# Altium schematic symbol library SamacSys.SchLib: 104 symbols
Pins are listed as number, name and electrical type; pins without a type are passive.

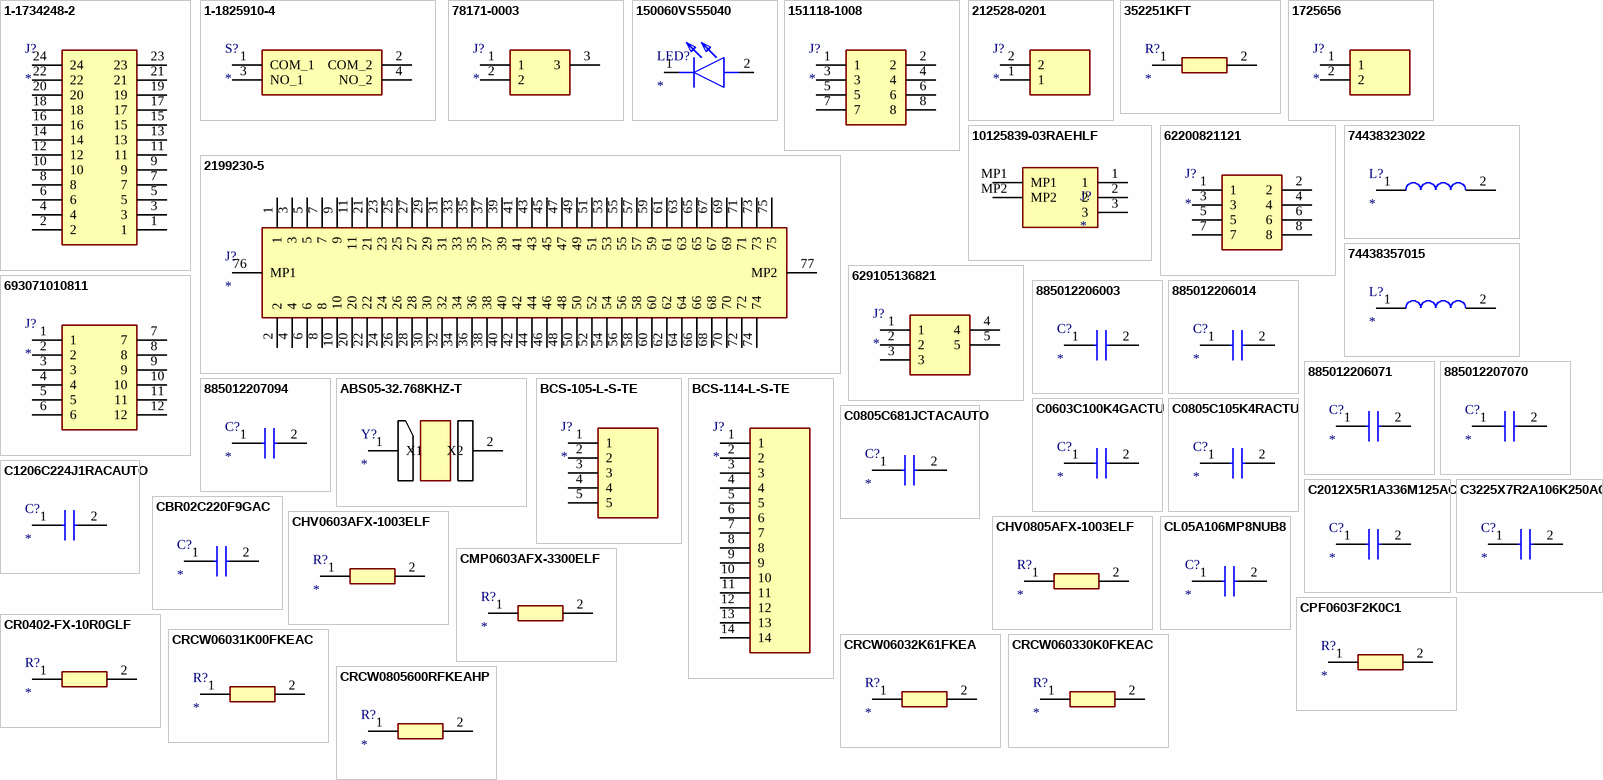
[diagram p0: symbols 1-1734248-2 to CRCW0805600RFKEAHP]

## 1-1734248-2
designator J?
Connector; Manufacturer_Name: TE Connectivity; Manufacturer_Part_Number: 1-1734248-2; Datasheet Link: https://componentsearchengine.com/Datasheets/2/1-1734248-2.pdf; Height: 8mm
footprint 117342482
pins: 1, 2, 3, 4, 5, 6, 7, 8, 9, 10, 11, 12, 13, 14, 15, 16, 17, 18, 19, 20, 21, 22, 23, 24

## 1-1825910-4
designator S?
Switch; Manufacturer_Name: TE Connectivity; Manufacturer_Part_Number: 1-1825910-4; Datasheet Link: https://componentsearchengine.com//1-1825910-4.pdf; Height: 7.7mm; Mouser2 Part Number: 506-1-1825910-4; Mouser2 Price/Stock: https://www.mouser.com/Search/Refine.aspx?Keyword=506-1-1825910-4
footprint 118259104
pins: 1 COM_1, 2 COM_2, 3 NO_1, 4 NO_2

## 78171-0003
designator J?
Connector; Manufacturer_Name: Molex; Manufacturer_Part_Number: 78171-0003; Datasheet Link: https://componentsearchengine.com//78171-0003.pdf; Mouser2 Part Number: 538-78171-0003; Mouser2 Price/Stock: https://www.mouser.com/Search/Refine.aspx?Keyword=538-78171-0003
footprint 78171-0003
pins: 1, 2, 3

## 150060VS55040
designator LED?
LED; Manufacturer_Name: Wurth Elektronik; Manufacturer_Part_Number: 150060VS55040; Datasheet Link: https://katalog.we-online.com/led/datasheet/150060VS55040.pdf; Height: 0.5mm
footprint LEDM168X50N
pins: 1 K, 2 A

## 151118-1008
designator J?
Connector; Manufacturer_Name: Molex; Manufacturer_Part_Number: 151118-1008; Height: 6.6mm
footprint 1511181008
pins: 1, 2, 3, 4, 5, 6, 7, 8

## 212528-0201
designator J?
Connector; Manufacturer_Name: Molex; Manufacturer_Part_Number: 212528-0201; Datasheet Link: https://www.molex.com/molex/products/part-detail/pcb_headers/2125280200; Height: 8.06mm
footprint 212528-02YY
pins: 1, 2

## 352251KFT
designator R?
Resistor; Manufacturer_Name: TE Connectivity; Manufacturer_Part_Number: 352251KFT; Datasheet Link: http://www.te.com/commerce/DocumentDelivery/DDEController?Action=showdoc&DocId=Data+Sheet%7F9-1773463-7%7FB%7Fpdf%7FEnglish%7FENG_DS_9-1773463-7_B.pdf%7F9-2176231-0; Height: 1.2mm
footprint RESC6432X120N
pins: 1, 2

## 1725656
designator J?
Connector; Manufacturer_Name: Phoenix Contact; Manufacturer_Part_Number: 1725656; Datasheet Link: https://componentsearchengine.com//1725656.pdf; Height: 8.65mm; Mouser2 Part Number: 651-1725656; Mouser2 Price/Stock: https://www.mouser.com/Search/Refine.aspx?Keyword=651-1725656
footprint 1725656
pins: 1, 2

## 2199230-5
designator J?
Connector; Manufacturer_Name: TE Connectivity; Manufacturer_Part_Number: 2199230-5; Datasheet Link: https://componentsearchengine.com//2199230-5.pdf; Height: 4.2mm; Mouser2 Part Number: 571-2199230-5; Mouser2 Price/Stock: https://www.mouser.com/Search/Refine.aspx?Keyword=571-2199230-5
footprint 21992305
pins: 1, 2, 3, 4, 5, 6, 7, 8, 9, 10, 11, 20, 21, 22, 23, 24, 25, 26, 27, 28, 29, 30, 31, 32, 33, 34, 35, 36, 37, 38, 39, 40, 41, 42, 43, 44, 45, 46, 47, 48, 49, 50, 51, 52, 53, 54, 55, 56, 57, 58, 59, 60, 61, 62, 63, 64, 65, 66, 67, 68, 69, 70, 71, 72, 73, 74, 75, 76 MP1, 77 MP2

## 10125839-03RAEHLF
designator J?
Connector; Manufacturer_Name: Amphenol; Manufacturer_Part_Number: 10125839-03RAEHLF; Datasheet Link: https://cdn.amphenol-icc.com/media/wysiwyg/files/drawing/10125839.pdf; Height: 2.5mm
footprint 1012583903RAEHLF
pins: 1, 2, 3, MP1, MP2

## 62200821121
designator J?
Connector; Manufacturer_Name: Wurth Elektronik; Manufacturer_Part_Number: 62200821121; Height: 5.3mm
footprint HDRV8W50P127_2X4_508X340X530P
pins: 1, 2, 3, 4, 5, 6, 7, 8

## 74438323022
designator L?
Inductor; Manufacturer_Name: Wurth Elektronik; Manufacturer_Part_Number: 74438323022; Datasheet Link: https://componentsearchengine.com//74438323022.pdf; Height: 1mm; Mouser2 Part Number: 710-74438323022; Mouser2 Price/Stock: https://www.mouser.com/Search/Refine.aspx?Keyword=710-74438323022
footprint INDC2520X100N
pins: 1, 2

## 74438357015
designator L?
Inductor; Manufacturer_Name: Wurth Elektronik; Manufacturer_Part_Number: 74438357015; Datasheet Link: https://componentsearchengine.com//74438357015.pdf; Height: 3.1mm; Mouser2 Part Number: 710-74438357015; Mouser2 Price/Stock: https://www.mouser.com/Search/Refine.aspx?Keyword=710-74438357015
footprint 74438357015
pins: 1, 2

## 629105136821
designator J?
Connector; Manufacturer_Name: Wurth Elektronik; Manufacturer_Part_Number: 629105136821; Datasheet Link: https://componentsearchengine.com//629105136821.pdf; Mouser2 Part Number: 710-629105136821; Mouser2 Price/Stock: https://www.mouser.com/Search/Refine.aspx?Keyword=710-629105136821
footprint MICRO-USB(2.0-SMT-TYPE-B)
pins: 1, 2, 3, 4, 5

## 693071010811
designator J?
Connector; Manufacturer_Name: Wurth Elektronik; Manufacturer_Part_Number: 693071010811; Datasheet Link: https://www.we-online.de/katalog/datasheet/693071010811.pdf; Height: 2.13mm
footprint 693071010811
pins: 1, 2, 3, 4, 5, 6, 7, 8, 9, 10, 11, 12

## 885012206003
designator C?
Capacitor; Manufacturer_Name: Wurth Elektronik; Manufacturer_Part_Number: 885012206003; Datasheet Link: https://katalog.we-online.com/pbs/datasheet/885012206003.pdf; Height: 0.87mm
footprint CAPC1608X87N
pins: 1, 2

## 885012206014
designator C?
Capacitor; Manufacturer_Name: Wurth Elektronik; Manufacturer_Part_Number: 885012206014; Datasheet Link: https://katalog.we-online.com/pbs/datasheet/885012206014.pdf; Height: 0.87mm
footprint CAPC1608X87N
pins: 1, 2

## 885012206071
designator C?
Capacitor; Manufacturer_Name: Wurth Elektronik; Manufacturer_Part_Number: 885012206071; Datasheet Link: https://katalog.we-online.com/pbs/datasheet/885012206071.pdf; Height: 0.87mm
footprint CAPC1608X87N
pins: 1, 2

## 885012207070
designator C?
Capacitor; Manufacturer_Name: Wurth Elektronik; Manufacturer_Part_Number: 885012207070; Datasheet Link: https://katalog.we-online.com/pbs/datasheet/885012207070.pdf; Height: 0.9mm
footprint CAPC2012X90N
pins: 1, 2

## 885012207094
designator C?
Capacitor; Manufacturer_Name: Wurth Elektronik; Manufacturer_Part_Number: 885012207094; Datasheet Link: https://componentsearchengine.com//885012207094.pdf; Height: 0.9mm; Mouser2 Part Number: 710-885012207094; Mouser2 Price/Stock: https://www.mouser.com/Search/Refine.aspx?Keyword=710-885012207094
footprint CAPC2012X90N
pins: 1, 2

## ABS05-32.768KHZ-T
designator Y?
Crystal or Oscillator; Manufacturer_Name: ABRACON; Manufacturer_Part_Number: ABS05-32.768KHZ-T; Height: 0.5mm
footprint ABS0532768KHZT
pins: 1 X1, 2 X2

## BCS-105-L-S-TE
designator J?
Connector; Manufacturer_Name: SAMTEC; Manufacturer_Part_Number: BCS-105-L-S-TE; Datasheet Link: http://suddendocs.samtec.com/prints/bcs-1xx-xxx-x-xx-xxx-mkt.pdf
footprint BCS-105-XXX-S-TE
pins: 1, 2, 3, 4, 5

## BCS-114-L-S-TE
designator J?
Connector; Manufacturer_Name: SAMTEC; Manufacturer_Part_Number: BCS-114-L-S-TE; Datasheet Link: http://suddendocs.samtec.com/prints/bcs-1xx-xxx-x-xx-xxx-mkt.pdf
footprint BCS-114-XXX-S-TE
pins: 1, 2, 3, 4, 5, 6, 7, 8, 9, 10, 11, 12, 13, 14

## C0603C100K4GACTU
designator C?
Capacitor; Manufacturer_Name: Kemet; Manufacturer_Part_Number: C0603C100K4GACTU; Datasheet Link: https://componentsearchengine.com//C0603C100K4GACTU.pdf; Height: 0.87mm; Mouser2 Part Number: 80-C0603C100K4GACTU; Mouser2 Price/Stock: https://www.mouser.com/Search/Refine.aspx?Keyword=80-C0603C100K4GACTU
footprint CAPC1608X87N
pins: 1, 2

## C0805C105K4RACTU
designator C?
Capacitor; Manufacturer_Name: Kemet; Manufacturer_Part_Number: C0805C105K4RACTU; Datasheet Link: https://datasheet.datasheetarchive.com/originals/distributors/Datasheets-DGA10/2404873.pdf; Height: 1mm
footprint CAPC2012X100N
pins: 1, 2

## C0805C681JCTACAUTO
designator C?
Capacitor; Manufacturer_Name: Kemet; Manufacturer_Part_Number: C0805C681JCTACAUTO; Datasheet Link: https://www.kemet.com/specsheet/C0805C681JCTACAUTO; Height: 1.4mm
footprint CAPC2012X140N
pins: 1, 2

## C1206C224J1RACAUTO
designator C?
Capacitor; Manufacturer_Name: Kemet; Manufacturer_Part_Number: C1206C224J1RACAUTO; Datasheet Link: https://connect.kemet.com:7667/gateway/IntelliData-ComponentDocumentation/1.0/download/specsheet/C1206C224J1RACAUTO; Height: 1mm
footprint CAPC3216X100N
pins: 1, 2

## C2012X5R1A336M125AC
designator C?
Capacitor; Manufacturer_Name: TDK; Manufacturer_Part_Number: C2012X5R1A336M125AC; Datasheet Link: https://product.tdk.com/system/files/dam/doc/product/capacitor/ceramic/mlcc/catalog/mlcc_commercial_general_en.pdf; Height: 0.75mm
footprint C2012_Commercial
pins: 1, 2

## C3225X7R2A106K250AC
designator C?
Capacitor; Manufacturer_Name: TDK; Manufacturer_Part_Number: C3225X7R2A106K250AC; Datasheet Link: https://product.tdk.com/info/en/catalog/datasheets/mlcc_commercial_midvoltage_en.pdf; Height: 2.3mm
footprint CAPC3225X230N
pins: 1, 2

## CBR02C220F9GAC
designator C?
Capacitor; Manufacturer_Name: Kemet; Manufacturer_Part_Number: CBR02C220F9GAC; Datasheet Link: https://datasheet.datasheetarchive.com/originals/distributors/Datasheets-DGA10/2407502.pdf; Height: 0.33mm
footprint CAPC0603X33N
pins: 1, 2

## CHV0603AFX-1003ELF
designator R?
Resistor; Manufacturer_Name: Bourns; Manufacturer_Part_Number: CHV0603AFX-1003ELF; Datasheet Link: https://www.bourns.com/docs/product-datasheets/chv.pdf?sfvrsn=adcf1bf9_27; Height: 0.55mm
footprint RESC1608X55N
pins: 1, 2

## CHV0805AFX-1003ELF
designator R?
Resistor; Manufacturer_Name: Bourns; Manufacturer_Part_Number: CHV0805AFX-1003ELF; Height: 0.6mm
footprint RESC2012X60N
pins: 1, 2

## CL05A106MP8NUB8
designator C?
Capacitor; Manufacturer_Name: Samsung Electro-Mechanics; Manufacturer_Part_Number: CL05A106MP8NUB8; Datasheet Link: https://datasheet.datasheetarchive.com/originals/distributors/DKDS-19/372904.pdf; Height: 0.9mm
footprint CAPC1005X90N
pins: 1, 2

## CMP0603AFX-3300ELF
designator R?
Resistor; Manufacturer_Name: Bourns; Manufacturer_Part_Number: CMP0603AFX-3300ELF; Datasheet Link: https://www.bourns.com/docs/Product-Datasheets/CMP-A.pdf; Height: 0.55mm
footprint RESC1608X55N
pins: 1, 2

## CPF0603F2K0C1
designator R?
Resistor; Manufacturer_Name: TE Connectivity; Manufacturer_Part_Number: CPF0603F2K0C1; Height: 0.55mm
footprint RESC1608X55N
pins: 1, 2

## CR0402-FX-10R0GLF
designator R?
Resistor; Manufacturer_Name: Bourns; Manufacturer_Part_Number: CR0402-FX-10R0GLF; Datasheet Link: https://www.bourns.com/pdfs/CR0402.pdf; Height: 0.4mm
footprint RESC1005X40N
pins: 1, 2

## CRCW06031K00FKEAC
designator R?
Resistor; Manufacturer_Name: Vishay; Manufacturer_Part_Number: CRCW06031K00FKEAC; Datasheet Link: https://componentsearchengine.com//CRCW06031K00FKEAC.pdf; Height: 0.55mm; Mouser2 Part Number: 71-CRCW06031K00FKEAC; Mouser2 Price/Stock: https://www.mouser.com/Search/Refine.aspx?Keyword=71-CRCW06031K00FKEAC
footprint RESC1608X55N
pins: 1, 2

## CRCW06032K61FKEA
designator R?
Resistor; Manufacturer_Name: Vishay; Manufacturer_Part_Number: CRCW06032K61FKEA; Datasheet Link: http://www.vishay.com/docs/20035/dcrcwe3.pdf; Height: 0.5mm
footprint RESC1608X50N
pins: 1, 2

## CRCW060330K0FKEAC
designator R?
Resistor; Manufacturer_Name: Vishay; Manufacturer_Part_Number: CRCW060330K0FKEAC; Datasheet Link: https://componentsearchengine.com//CRCW060330K0FKEAC.pdf; Height: 0.55mm; Mouser2 Part Number: 71-CRCW060330K0FKEAC; Mouser2 Price/Stock: https://www.mouser.com/Search/Refine.aspx?Keyword=71-CRCW060330K0FKEAC
footprint RESC1608X55N
pins: 1, 2

## CRCW0805600RFKEAHP
designator R?
Resistor; Manufacturer_Name: Vishay; Manufacturer_Part_Number: CRCW0805600RFKEAHP; Datasheet Link: https://componentsearchengine.com/Datasheets/1/CRCW08051R00FKEAHP.pdf; Height: 0.6mm
footprint RESC2012X60N
pins: 1, 2

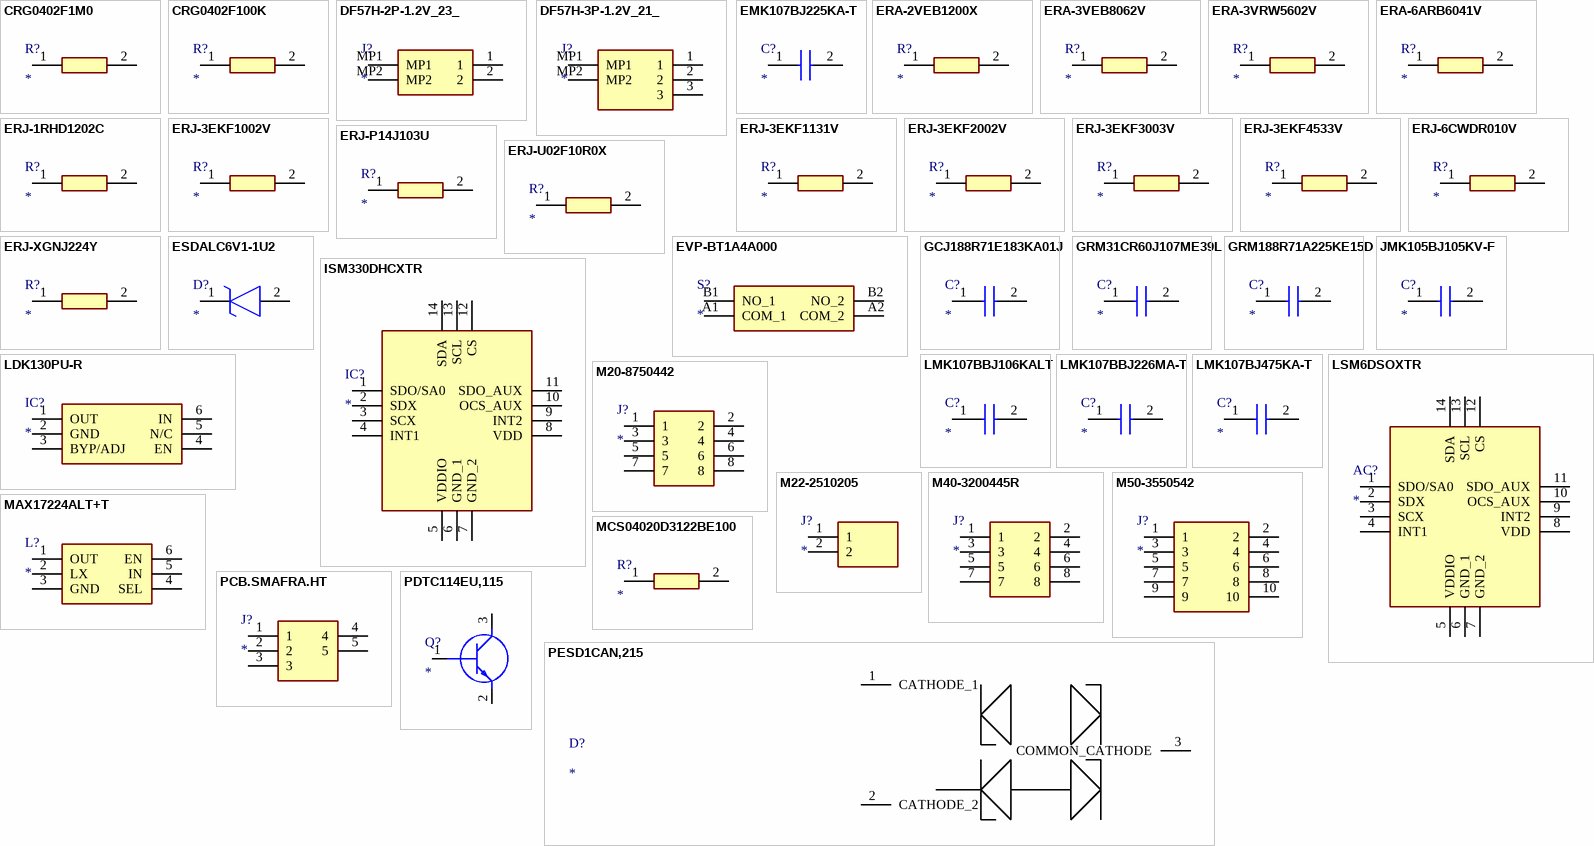
[diagram p1: symbols CRG0402F1M0 to PESD1CAN,215]

## CRG0402F1M0
designator R?
Resistor; Manufacturer_Name: TE Connectivity; Manufacturer_Part_Number: CRG0402F1M0; Datasheet Link: https://datasheet.datasheetarchive.com/originals/distributors/DKDS-21/401698.pdf; Height: 0.4mm
footprint RESC1005X40N
pins: 1, 2

## CRG0402F100K
designator R?
Resistor; Manufacturer_Name: TE Connectivity; Manufacturer_Part_Number: CRG0402F100K; Datasheet Link: https://datasheet.datasheetarchive.com/originals/distributors/DKDS-21/401698.pdf; Height: 0.4mm
footprint RESC1005X40N
pins: 1, 2

## DF57H-2P-1.2V_23_
designator J?
Connector; Manufacturer_Name: Hirose; Manufacturer_Part_Number: DF57H-2P-1.2V(23); Datasheet Link: https://www.hirose.com/product/document?clcode=CL0666-0104-7-23&productname=DF57H-2P-1.2V(23)&series=DF57&documenttype=2DDrawing&lang=en&documentid=0000600026; Height: 1.55mm
footprint DF57H2P12V23
pins: 1, 2, MP1, MP2

## DF57H-3P-1.2V_21_
designator J?
Connector; Manufacturer_Name: Hirose; Manufacturer_Part_Number: DF57H-3P-1.2V(21); Datasheet Link: https://componentsearchengine.com//DF57H-3P-1.2V(21).pdf; Height: 1.55mm; Mouser2 Part Number: 798-DF57H-3P-1.2V21; Mouser2 Price/Stock: https://www.mouser.com/Search/Refine.aspx?Keyword=798-DF57H-3P-1.2V21
footprint DF57H3P12V21
pins: 1, 2, 3, MP1, MP2

## EMK107BJ225KA-T
designator C?
Capacitor; Manufacturer_Name: TAIYO YUDEN; Manufacturer_Part_Number: EMK107BJ225KA-T; Height: 0.5mm
footprint CAPC1608X50N
pins: 1, 2

## ERA-2VEB1200X
designator R?
Resistor; Manufacturer_Name: Panasonic; Manufacturer_Part_Number: ERA-2VEB1200X; Datasheet Link: http://industrial.panasonic.com/cdbs/www-data/pdf/RDM0000/RDM0000C331.pdf; Height: 0.4mm
footprint ERA2V_(0402)
pins: 1, 2

## ERA-3VEB8062V
designator R?
Resistor; Manufacturer_Name: Panasonic; Manufacturer_Part_Number: ERA-3VEB8062V; Datasheet Link: http://industrial.panasonic.com/cdbs/www-data/pdf/RDM0000/RDM0000C331.pdf; Height: 0.4mm
footprint ERA3KV_(0603)
pins: 1, 2

## ERA-3VRW5602V
designator R?
Resistor; Manufacturer_Name: Panasonic; Manufacturer_Part_Number: ERA-3VRW5602V; Datasheet Link: http://industrial.panasonic.com/cdbs/www-data/pdf/RDM0000/RDM0000C331.pdf; Height: 0.4mm
footprint ERA3KV_(0603)
pins: 1, 2

## ERA-6ARB6041V
designator R?
Resistor; Manufacturer_Name: Panasonic; Manufacturer_Part_Number: ERA-6ARB6041V; Datasheet Link: http://industrial.panasonic.com/cdbs/www-data/pdf/RDM0000/AOA0000C307.pdf; Height: 0.6mm
footprint ERA6A_(0805)
pins: 1, 2

## ERJ-1RHD1202C
designator R?
Resistor; Manufacturer_Name: Panasonic; Manufacturer_Part_Number: ERJ-1RHD1202C; Datasheet Link: https://industrial.panasonic.com/cdbs/www-data/pdf/RDA0000/AOA0000C304.pdf; Height: 0.26mm
footprint RESC0603X26N
pins: 1, 2

## ERJ-3EKF1002V
designator R?
Resistor; Manufacturer_Name: Panasonic; Manufacturer_Part_Number: ERJ-3EKF1002V; Datasheet Link: https://componentsearchengine.com//ERJ-3EKF1002V.pdf; Height: 0.55mm; Mouser2 Part Number: 667-ERJ-3EKF1002V; Mouser2 Price/Stock: https://www.mouser.com/Search/Refine.aspx?Keyword=667-ERJ-3EKF1002V
footprint ERJ3EK_(0603)
pins: 1, 2

## ERJ-3EKF1131V
designator R?
Resistor; Manufacturer_Name: Panasonic; Manufacturer_Part_Number: ERJ-3EKF1131V; Datasheet Link: https://industrial.panasonic.com/cdbs/www-data/pdf/RDA0000/AOA0000C304.pdf; Height: 0.55mm
footprint ERJ3EK_(0603)
pins: 1, 2

## ERJ-3EKF2002V
designator R?
Resistor; Manufacturer_Name: Panasonic; Manufacturer_Part_Number: ERJ-3EKF2002V; Datasheet Link: https://componentsearchengine.com//ERJ-3EKF2002V.pdf; Height: 0.55mm; Mouser2 Part Number: 667-ERJ-3EKF2002V; Mouser2 Price/Stock: https://www.mouser.com/Search/Refine.aspx?Keyword=667-ERJ-3EKF2002V
footprint ERJ3EK_(0603)
pins: 1, 2

## ERJ-3EKF3003V
designator R?
Resistor; Manufacturer_Name: Panasonic; Manufacturer_Part_Number: ERJ-3EKF3003V; Datasheet Link: https://industrial.panasonic.com/cdbs/www-data/pdf/RDA0000/AOA0000C304.pdf; Height: 0.55mm
footprint ERJ3EK_(0603)
pins: 1, 2

## ERJ-3EKF4533V
designator R?
Resistor; Manufacturer_Name: Panasonic; Manufacturer_Part_Number: ERJ-3EKF4533V; Datasheet Link: https://industrial.panasonic.com/cdbs/www-data/pdf/RDA0000/AOA0000C304.pdf; Height: 0.55mm
footprint ERJ3EK_(0603)
pins: 1, 2

## ERJ-6CWDR010V
designator R?
Resistor; Manufacturer_Name: Panasonic; Manufacturer_Part_Number: ERJ-6CWDR010V; Description: SMD Current Sense Resistor; Datasheet Link: https://componentsearchengine.com//ERJ-6CWDR010V.pdf; Mouser2 Part Number: 667-ERJ-6CWDR010V; Mouser2 Price/Stock: https://www.mouser.com/Search/Refine.aspx?Keyword=667-ERJ-6CWDR010V
footprint ERJ6_B_BW_R_LW_CW_D
pins: 1, 2

## ERJ-P14J103U
designator R?
Resistor; Manufacturer_Name: Panasonic; Manufacturer_Part_Number: ERJ-P14J103U; Datasheet Link: http://industrial.panasonic.com/cdbs/www-data/pdf/RDO0000/AOA0000C331.pdf; Height: 0.7mm
footprint ERJP14_(1210)
pins: 1, 2

## ERJ-U02F10R0X
designator R?
Resistor; Manufacturer_Name: Panasonic; Manufacturer_Part_Number: ERJ-U02F10R0X; Datasheet Link: https://industrial.panasonic.com/cdbs/www-data/pdf/RDP0000/AOA0000C334.pdf; Height: 0.4mm
footprint ERJS02_U02_(0402)
pins: 1, 2

## ERJ-XGNJ224Y
designator R?
Resistor; Manufacturer_Name: Panasonic; Manufacturer_Part_Number: ERJ-XGNJ224Y; Datasheet Link: https://industrial.panasonic.com/cdbs/www-data/pdf/RDA0000/AOA0000C301.pdf; Height: 0.15mm
footprint ERJXG_(01005)
pins: 1, 2

## ESDALC6V1-1U2
designator D?
TVS Diode (Uni-directional); Manufacturer_Name: STMicroelectronics; Manufacturer_Part_Number: ESDALC6V1-1U2; Datasheet Link: http://www.st.com/web/en/resource/technical/document/datasheet/CD00212838.pdf; Height: 0mm
footprint ESDALC6V11U2
pins: 1 K, 2 A

## EVP-BT1A4A000
designator S?
Switch; Manufacturer_Name: Panasonic; Manufacturer_Part_Number: EVP-BT1A4A000; Datasheet Link: https://b2b-api.panasonic.eu/file_stream/pids/fileversion/245491; Height: 4.5mm
footprint EVPBT1A4A000
pins: A1 COM_1, A2 COM_2, B1 NO_1, B2 NO_2

## GCJ188R71E183KA01J
designator C?
Capacitor; Manufacturer_Name: Murata Electronics; Manufacturer_Part_Number: GCJ188R71E183KA01J; Datasheet Link: https://psearch.en.murata.com/capacitor/product/GCJ188R71E183KA01%23.html; Height: 1mm
footprint CAPC1608X100N
pins: 1, 2

## GRM31CR60J107ME39L
designator C?
Capacitor; Manufacturer_Name: Murata Electronics; Manufacturer_Part_Number: GRM31CR60J107ME39L; Datasheet Link: https://componentsearchengine.com//GRM31CR60J107ME39L.pdf; Height: 1.8mm; Mouser2 Part Number: 81-GRM31CR60J107ME9L; Mouser2 Price/Stock: https://www.mouser.com/Search/Refine.aspx?Keyword=81-GRM31CR60J107ME9L
footprint CAPC3216X180N
pins: 1, 2

## GRM188R71A225KE15D
designator C?
Capacitor; Manufacturer_Name: Murata Electronics; Manufacturer_Part_Number: GRM188R71A225KE15D; Datasheet Link: https://psearch.en.murata.com/capacitor/product/GRM188R71A225KE15%23.html; Height: 0.9mm
footprint CAPC1608X90N
pins: 1, 2

## ISM330DHCXTR
designator IC?
Integrated Circuit; Manufacturer_Name: STMicroelectronics; Manufacturer_Part_Number: ISM330DHCXTR; Datasheet Link: https://www.st.com/resource/en/datasheet/ism330dhcx.pdf; Mouser2 Part Number: 511-ISM330DHCXTR; Mouser2 Price/Stock: https://www.mouser.com/Search/Refine.aspx?Keyword=511-ISM330DHCXTR
footprint LGA-14(2.5X3X0.86)
pins: 1 SDO/SA0, 2 SDX, 3 SCX, 4 INT1, 5 VDDIO, 6 GND_1, 7 GND_2, 8 VDD, 9 INT2, 10 OCS_AUX, 11 SDO_AUX, 12 CS, 13 SCL, 14 SDA

## JMK105BJ105KV-F
designator C?
Capacitor; Manufacturer_Name: TAIYO YUDEN; Manufacturer_Part_Number: JMK105BJ105KV-F; Datasheet Link: https://datasheet.datasheetarchive.com/originals/distributors/Datasheets-DGA20/25674.pdf; Height: 0.55mm
footprint CAPC1005X55N
pins: 1, 2

## LDK130PU-R
designator IC?
Integrated Circuit; Manufacturer_Name: STMicroelectronics; Manufacturer_Part_Number: LDK130PU-R; Datasheet Link: https://componentsearchengine.com//LDK130PU-R.pdf; Mouser2 Part Number: 511-LDK130PU-R; Mouser2 Price/Stock: https://www.mouser.com/Search/Refine.aspx?Keyword=511-LDK130PU-R
footprint LDK130PU18R
pins: 1 OUT, 2 GND, 3 BYP/ADJ, 4 EN, 5 N/C, 6 IN

## LMK107BBJ106KALT
designator C?
Capacitor; Manufacturer_Name: TAIYO YUDEN; Manufacturer_Part_Number: LMK107BBJ106KALT; Datasheet Link: https://componentsearchengine.com//LMK107BBJ106KALT.pdf; Height: 1mm; Mouser2 Part Number: 963-LMK107BBJ106KALT; Mouser2 Price/Stock: https://www.mouser.com/Search/Refine.aspx?Keyword=963-LMK107BBJ106KALT
footprint CAPC1608X100N
pins: 1, 2

## LMK107BBJ226MA-T
designator C?
Capacitor; Manufacturer_Name: TAIYO YUDEN; Manufacturer_Part_Number: LMK107BBJ226MA-T; Datasheet Link: https://componentsearchengine.com/Datasheets/1/LMK107BBJ226MA-T.pdf; Height: 0.9mm
footprint CAPC1608X90N
pins: 1, 2

## LMK107BJ475KA-T
designator C?
Capacitor; Manufacturer_Name: TAIYO YUDEN; Manufacturer_Part_Number: LMK107BJ475KA-T; Height: 0.9mm
footprint CAPC1608X90N
pins: 1, 2

## LSM6DSOXTR
designator AC?
Accelerometer; Manufacturer_Name: STMicroelectronics; Manufacturer_Part_Number: LSM6DSOXTR; Datasheet Link: https://componentsearchengine.com//LSM6DSOXTR.pdf; Mouser2 Part Number: 511-LSM6DSOXTR; Mouser2 Price/Stock: https://www.mouser.com/Search/Refine.aspx?Keyword=511-LSM6DSOXTR
footprint LGA-14_1
pins: 1 SDO/SA0, 2 SDX, 3 SCX, 4 INT1, 5 VDDIO, 6 GND_1, 7 GND_2, 8 VDD, 9 INT2, 10 OCS_AUX, 11 SDO_AUX, 12 CS, 13 SCL, 14 SDA

## M20-8750442
designator J?
Connector; Manufacturer_Name: Harwin; Manufacturer_Part_Number: M20-8750442; Datasheet Link: https://componentsearchengine.com//M20-8750442.pdf; Height: 10.64mm; Mouser2 Part Number: 855-M20-8750442; Mouser2 Price/Stock: https://www.mouser.com/Search/Refine.aspx?Keyword=855-M20-8750442
footprint M208750442
pins: 1, 2, 3, 4, 5, 6, 7, 8

## M22-2510205
designator J?
Connector; Manufacturer_Name: Harwin; Manufacturer_Part_Number: M22-2510205; Datasheet Link: https://cdn.harwin.com/pdfs/M22-251.pdf; Height: 5.25mm
footprint HDRV2W60P0X200_1X2_400X200X525P
pins: 1, 2

## M40-3200445R
designator J?
Connector; Manufacturer_Name: Harwin; Manufacturer_Part_Number: M40-3200445R; Datasheet Link: https://componentsearchengine.com//M40-3200445R.pdf; Mouser2 Part Number: 855-M40-3200445R; Mouser2 Price/Stock: https://www.mouser.com/Search/Refine.aspx?Keyword=855-M40-3200445R
footprint HUSSP8W30P100_2X4_400X320X365P
pins: 1, 2, 3, 4, 5, 6, 7, 8

## M50-3550542
designator J?
Connector; Manufacturer_Name: Harwin; Manufacturer_Part_Number: M50-3550542; Datasheet Link: https://componentsearchengine.com/Datasheets/2/M50-3550542.pdf; Height: 11.6mm
footprint SHDR10W40P127_2X5_2083X565X1160P
pins: 1, 2, 3, 4, 5, 6, 7, 8, 9, 10

## MAX17224ALT+T
designator L?
Inductor; Manufacturer_Name: Maxim Integrated; Manufacturer_Part_Number: MAX17224ALT+T; Datasheet Link: https://datasheets.maximintegrated.com/en/ds/MAX17220-MAX17225.pdf; Height: 0.8mm
footprint MAX17220ALT
pins: 1 OUT, 2 LX, 3 GND, 4 SEL, 5 IN, 6 EN

## MCS04020D3122BE100
designator R?
Resistor; Manufacturer_Name: Vishay; Manufacturer_Part_Number: MCS04020D3122BE100; Datasheet Link: http://www.vishay.com/docs/28705/mcx0x0xpro.pdf; Height: 0.37mm
footprint RESC1005X37N
pins: 1, 2

## PCB.SMAFRA.HT
designator J?
Connector; Manufacturer_Name: Taoglas; Manufacturer_Part_Number: PCB.SMAFRA.HT; Datasheet Link: https://componentsearchengine.com//PCB.SMAFRA.HT.pdf; Height: 9mm; Mouser2 Part Number: 960-PCB.SMAFRA.HT; Mouser2 Price/Stock: https://www.mouser.com/Search/Refine.aspx?Keyword=960-PCB.SMAFRA.HT
footprint PCBSMAFRAHT
pins: 1, 2, 3, 4, 5

## PDTC114EU,115
designator Q?
Transistor BJT NPN; Manufacturer_Name: Nexperia; Manufacturer_Part_Number: PDTC114EU,115; Datasheet Link: https://componentsearchengine.com//PDTC114EU,115.pdf; Height: 1.1mm; Mouser2 Part Number: 771-PDTC114EU115; Mouser2 Price/Stock: https://www.mouser.com/Search/Refine.aspx?Keyword=771-PDTC114EU115
footprint SOT65P210X110-3N
pins: 1 B, 2 E, 3 C

## PESD1CAN,215
designator D?
Diode ESD (Uni-directional); Manufacturer_Name: Nexperia; Manufacturer_Part_Number: PESD1CAN,215; Datasheet Link: https://componentsearchengine.com//PESD1CAN,215.pdf; Height: 1.1mm; Mouser2 Part Number: 771-PESD1CAN-T/R; Mouser2 Price/Stock: https://www.mouser.com/Search/Refine.aspx?Keyword=771-PESD1CAN-T%2FR
footprint SOT95P230X110-3N
pins: 1 CATHODE_1, 2 CATHODE_2, 3 COMMON_CATHODE

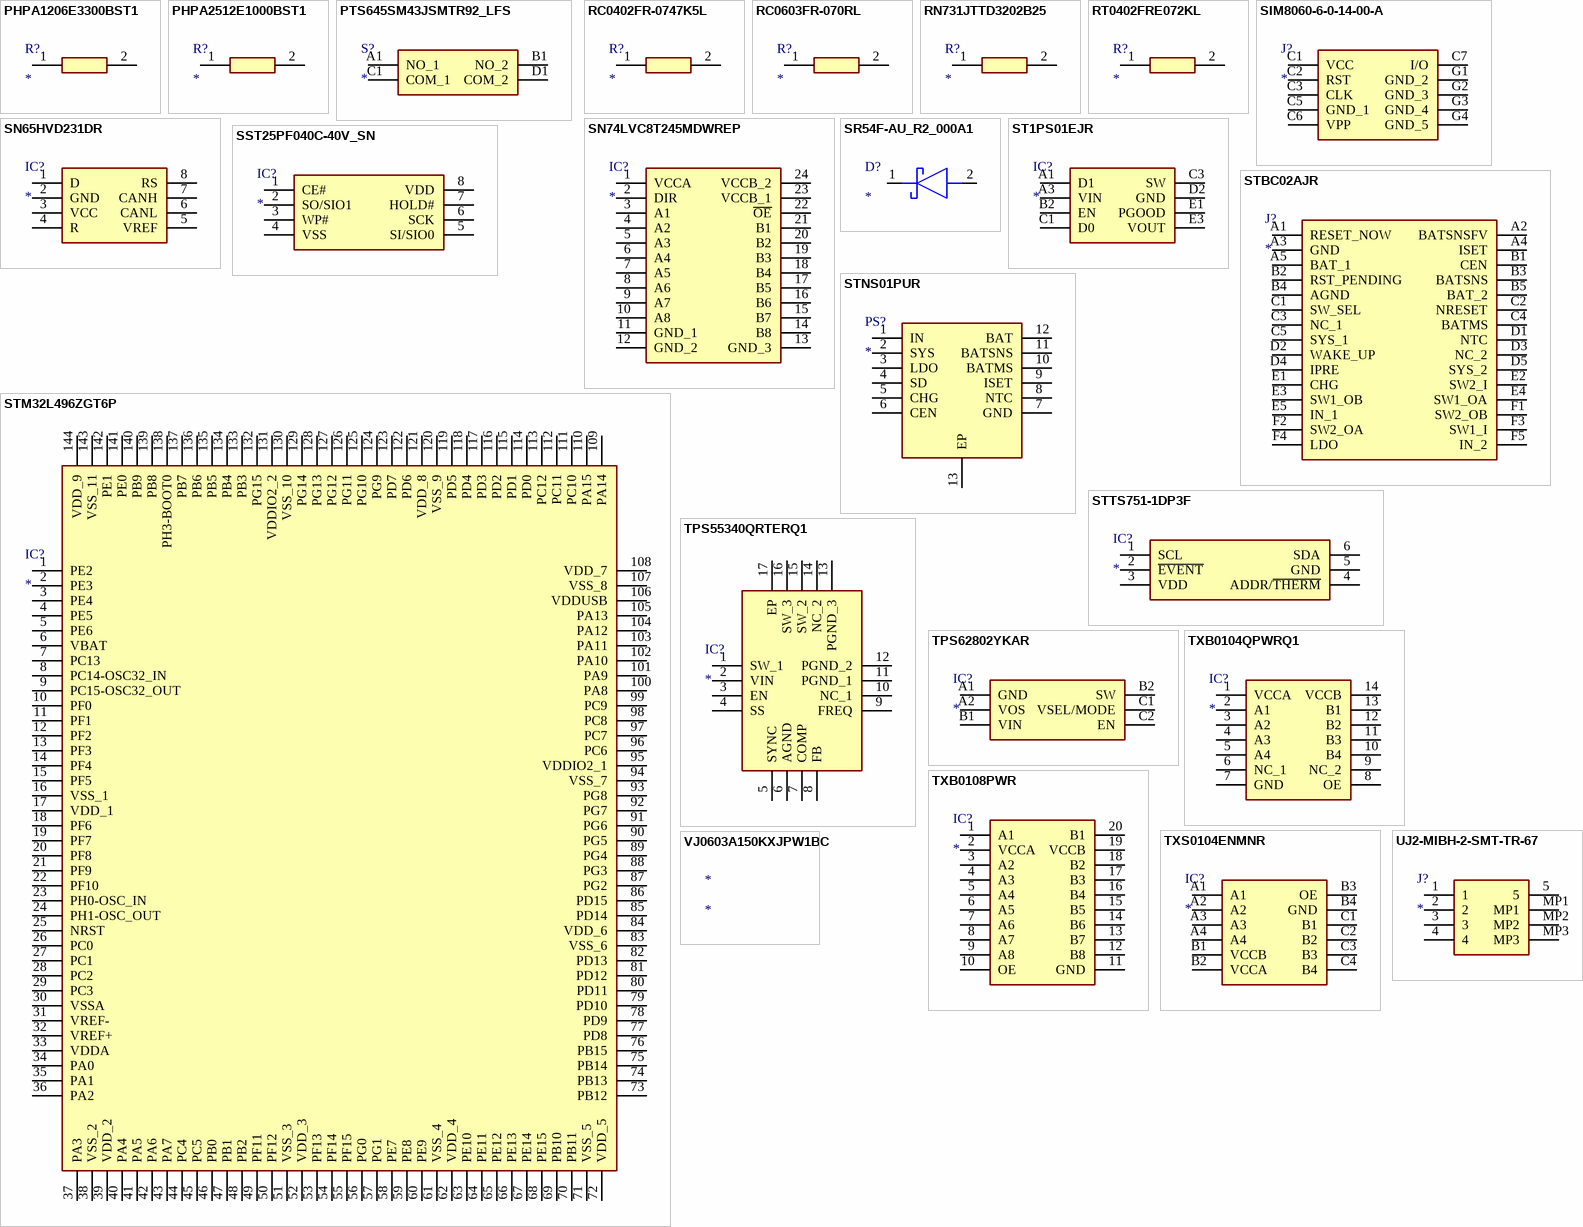
[diagram p2: symbols PHPA1206E3300BST1 to VJ0603A150KXJPW1BC]

## PHPA1206E3300BST1
designator R?
Resistor; Manufacturer_Name: Vishay; Manufacturer_Part_Number: PHPA1206E3300BST1; Datasheet Link: https://www.vishay.com/docs/60160/phpa.pdf; Height: 0.508mm
footprint RESC3216X51N
pins: 1, 2

## PHPA2512E1000BST1
designator R?
Resistor; Manufacturer_Name: Vishay; Manufacturer_Part_Number: PHPA2512E1000BST1; Datasheet Link: https://www.vishay.com/docs/60160/phpa.pdf; Height: 0.508mm
footprint PHPA2512E1001BS
pins: 1, 2

## PTS645SM43JSMTR92_LFS
designator S?
Switch; Manufacturer_Name: C & K COMPONENTS; Manufacturer_Part_Number: PTS645SM43JSMTR92 LFS; Datasheet Link: https://www.mouser.tw/ProductDetail/CK/PTS645SM43JSMTR92-LFS?qs=TiOZkKH1s2T1Y3ae9C0wSg%3D%3D; Height: 4.8mm
footprint PTS645SM43JSMTR92LFS
pins: A1 NO_1, B1 NO_2, C1 COM_1, D1 COM_2

## RC0402FR-0747K5L
designator R?
Resistor; Manufacturer_Name: YAGEO (PHYCOMP); Manufacturer_Part_Number: RC0402FR-0747K5L; Datasheet Link: https://componentsearchengine.com//RC0402FR-0747K5L.pdf; Height: 0.4mm; Mouser2 Part Number: 603-RC0402FR-0747K5L; Mouser2 Price/Stock: https://www.mouser.com/Search/Refine.aspx?Keyword=603-RC0402FR-0747K5L
footprint RESC1005X40N
pins: 1, 2

## RC0603FR-070RL
designator R?
Resistor; Manufacturer_Name: YAGEO (PHYCOMP); Manufacturer_Part_Number: RC0603FR-070RL; Height: 0.55mm
footprint RESC1608X55N
pins: 1, 2

## RN731JTTD3202B25
designator R?
Resistor; Manufacturer_Name: KOA Speer; Manufacturer_Part_Number: RN731JTTD3202B25; Datasheet Link: https://componentsearchengine.com/Datasheets/1/RN731JTTD3202B25.pdf; Height: 0.55mm
footprint RESC1608X55N
pins: 1, 2

## RT0402FRE072KL
designator R?
Resistor; Manufacturer_Name: YAGEO (PHYCOMP); Manufacturer_Part_Number: RT0402FRE072KL; Datasheet Link: https://datasheet.datasheetarchive.com/originals/distributors/Datasheets_SAMA/a1f8f48f216d234b3e6a96d43a77a0c1.pdf; Height: 0.35mm
footprint RESC1005X35N
pins: 1, 2

## SIM8060-6-0-14-00-A
designator J?
Connector; Manufacturer_Name: GCT (GLOBAL CONNECTOR TECHNOLOGY); Manufacturer_Part_Number: SIM8060-6-0-14-00-A; Datasheet Link: https://gct.co/files/drawings/sim8060.pdf; Height: 1.43mm
footprint SIM8060601400A
pins: C1 VCC, C2 RST, C3 CLK, C5 GND_1, C6 VPP, C7 I/O, G1 GND_2, G2 GND_3, G3 GND_4, G4 GND_5

## SN65HVD231DR
designator IC?
Integrated Circuit; Manufacturer_Name: Texas Instruments; Manufacturer_Part_Number: SN65HVD231DR; Datasheet Link: http://www.ti.com/lit/gpn/sn65hvd231; Height: 1.75mm
footprint SOIC127P600X175-8N
pins: 1 D, 2 GND, 3 VCC, 4 R, 5 VREF, 6 CANL, 7 CANH, 8 RS

## SN74LVC8T245MDWREP
designator IC?
Integrated Circuit; Manufacturer_Name: Texas Instruments; Manufacturer_Part_Number: SN74LVC8T245MDWREP; Datasheet Link: http://www.ti.com/lit/gpn/sn74lvc8t245-ep; Height: 2.65mm; Mouser2 Part Number: 595-74LVC8T245MDWREP; Mouser2 Price/Stock: https://www.mouser.com/Search/Refine.aspx?Keyword=595-74LVC8T245MDWREP
footprint SOIC127P1030X265-24N
pins: 1 VCCA, 2 DIR, 3 A1, 4 A2, 5 A3, 6 A4, 7 A5, 8 A6, 9 A7, 10 A8, 11 GND_1, 12 GND_2, 13 GND_3, 14 B8, 15 B7, 16 B6, 17 B5, 18 B4, 19 B3, 20 B2, 21 B1, 22 ~{OE}, 23 VCCB_1, 24 VCCB_2

## SR54F-AU_R2_000A1
designator D?
Schottky Diode; Manufacturer_Name: PANJIT; Manufacturer_Part_Number: SR54F-AU_R2_000A1; Datasheet Link: https://www.mouser.jp/datasheet/2/1057/SR54F-AU-1877118.pdf; Height: 1.1mm
footprint SODFL5336X110N
pins: 1 K, 2 A

## SST25PF040C-40V_SN
designator IC?
Integrated Circuit; Manufacturer_Name: Microchip; Manufacturer_Part_Number: SST25PF040C-40V/SN; Datasheet Link: https://componentsearchengine.com/Datasheets/1/SST25PF040C-40V_SN.pdf; Height: 1.75mm
footprint SOIC127P600X175-8N
pins: 1 CE#, 2 SO/SIO1, 3 WP#, 4 VSS, 5 SI/SIO0, 6 SCK, 7 HOLD#, 8 VDD

## ST1PS01EJR
designator IC?
Integrated Circuit; Manufacturer_Name: STMicroelectronics; Manufacturer_Part_Number: ST1PS01EJR; Datasheet Link: https://www.st.com/resource/en/datasheet/st1ps01.pdf; Height: 0.6mm
footprint ST1PS01EJR
pins: A1 D1, A3 VIN, B2 EN, C1 D0, C3 SW, D2 GND, E1 PGOOD, E3 VOUT

## STBC02AJR
designator J?
Connector; Manufacturer_Name: STMicroelectronics; Manufacturer_Part_Number: STBC02AJR; Datasheet Link: https://componentsearchengine.com//STBC02AJR.pdf; Height: 0.6mm; Mouser2 Part Number: 511-STBC02AJR; Mouser2 Price/Stock: https://www.mouser.com/Search/Refine.aspx?Keyword=511-STBC02AJR
footprint BGA30C40P5X6_225X259X60
pins: A1 RESET_NOW, A2 BATSNSFV, A3 GND, A4 ISET, A5 BAT_1, B1 CEN, B2 RST_PENDING, B3 BATSNS, B4 AGND, B5 BAT_2, C1 SW_SEL, C2 NRESET, C3 NC_1, C4 BATMS, C5 SYS_1, D1 NTC, D2 WAKE_UP, D3 NC_2, D4 IPRE, D5 SYS_2, E1 CHG, E2 SW2_I, E3 SW1_OB, E4 SW1_OA, E5 IN_1, F1 SW2_OB, F2 SW2_OA, F3 SW1_I, F4 LDO, F5 IN_2

## STM32L496ZGT6P
designator IC?
Integrated Circuit; Manufacturer_Name: STMicroelectronics; Manufacturer_Part_Number: STM32L496ZGT6P; Datasheet Link: https://www.st.com/resource/en/datasheet/stm32l496ae.pdf; Height: 1.6mm
footprint QFP50P2200X2200X160-144N
pins: 1 PE2, 2 PE3, 3 PE4, 4 PE5, 5 PE6, 6 VBAT, 7 PC13, 8 PC14-OSC32_IN, 9 PC15-OSC32_OUT, 10 PF0, 11 PF1, 12 PF2, 13 PF3, 14 PF4, 15 PF5, 16 VSS_1, 17 VDD_1, 18 PF6, 19 PF7, 20 PF8, 21 PF9, 22 PF10, 23 PH0-OSC_IN, 24 PH1-OSC_OUT, 25 NRST, 26 PC0, 27 PC1, 28 PC2, 29 PC3, 30 VSSA, 31 VREF-, 32 VREF+, 33 VDDA, 34 PA0, 35 PA1, 36 PA2, 37 PA3, 38 VSS_2, 39 VDD_2, 40 PA4, 41 PA5, 42 PA6, 43 PA7, 44 PC4, 45 PC5, 46 PB0, 47 PB1, 48 PB2, 49 PF11, 50 PF12, 51 VSS_3, 52 VDD_3, 53 PF13, 54 PF14, 55 PF15, 56 PG0, 57 PG1, 58 PE7, 59 PE8, 60 PE9, 61 VSS_4, 62 VDD_4, 63 PE10, 64 PE11, 65 PE12, 66 PE13, 67 PE14, 68 PE15, 69 PB10, 70 PB11, 71 VSS_5, 72 VDD_5, 73 PB12, 74 PB13, 75 PB14, 76 PB15, 77 PD8, 78 PD9, 79 PD10, 80 PD11, 81 PD12, 82 PD13, 83 VSS_6, 84 VDD_6, 85 PD14, 86 PD15, 87 PG2, 88 PG3, 89 PG4, 90 PG5, 91 PG6, 92 PG7, 93 PG8, 94 VSS_7, 95 VDDIO2_1, 96 PC6, 97 PC7, 98 PC8, 99 PC9, 100 PA8, 101 PA9, 102 PA10, 103 PA11, 104 PA12, 105 PA13, 106 VDDUSB, 107 VSS_8, 108 VDD_7, 109 PA14, 110 PA15, 111 PC10, 112 PC11, 113 PC12, 114 PD0, 115 PD1, 116 PD2, 117 PD3, 118 PD4, 119 PD5, 120 VSS_9, 121 VDD_8, 122 PD6, 123 PD7, 124 PG9, 125 PG10, 126 PG11, 127 PG12, 128 PG13, 129 PG14, 130 VSS_10, 131 VDDIO2_2, 132 PG15, 133 PB3, 134 PB4, 135 PB5, 136 PB6, 137 PB7, 138 PH3-BOOT0, 139 PB8, 140 PB9, 141 PE0, 142 PE1, 143 VSS_11, 144 VDD_9

## STNS01PUR
designator PS?
Power Supply; Manufacturer_Name: STMicroelectronics; Manufacturer_Part_Number: STNS01PUR; Datasheet Link: https://componentsearchengine.com/Datasheets/2/STNS01PUR.pdf; Height: 0.8mm
footprint SON45P300X300X80-13N-D
pins: 1 IN, 2 SYS, 3 LDO, 4 SD, 5 CHG, 6 CEN, 7 GND, 8 NTC, 9 ISET, 10 BATMS, 11 BATSNS, 12 BAT, 13 EP

## STTS751-1DP3F
designator IC?
Integrated Circuit; Manufacturer_Name: STMicroelectronics; Manufacturer_Part_Number: STTS751-1DP3F; Datasheet Link: http://www.st.com/content/ccc/resource/technical/document/datasheet/92/61/9d/75/eb/f1/46/b8/CD00252523.pdf/files/CD00252523.pdf/jcr:content/translations/en.CD00252523.pdf; Height: 0.55mm
footprint SON65P200X200X55-6N
pins: 1 SCL, 2 ~{EVENT}, 3 VDD, 4 ADDR/~{THERM}, 5 GND, 6 SDA

## TPS55340QRTERQ1
designator IC?
Integrated Circuit; Manufacturer_Name: Texas Instruments; Manufacturer_Part_Number: TPS55340QRTERQ1; Datasheet Link: http://www.ti.com/lit/gpn/tps55340-q1; Height: 0.8mm; Mouser2 Part Number: 595-TPS55340QRTERQ1; Mouser2 Price/Stock: https://www.mouser.com/Search/Refine.aspx?Keyword=595-TPS55340QRTERQ1
footprint QFN50P300X300X80-17N-D
pins: 1 SW_1, 2 VIN, 3 EN, 4 SS, 5 SYNC, 6 AGND, 7 COMP, 8 FB, 9 FREQ, 10 NC_1, 11 PGND_1, 12 PGND_2, 13 PGND_3, 14 NC_2, 15 SW_2, 16 SW_3, 17 EP

## TPS62802YKAR
designator IC?
Integrated Circuit; Manufacturer_Name: Texas Instruments; Manufacturer_Part_Number: TPS62802YKAR; Datasheet Link: http://www.ti.com/lit/gpn/tps62802; Height: 0.4mm
footprint BGA6C35P2X3_70X105X40
pins: A1 GND, A2 VOS, B1 VIN, B2 SW, C1 VSEL/MODE, C2 EN

## TXB0104QPWRQ1
designator IC?
Integrated Circuit; Manufacturer_Name: Texas Instruments; Manufacturer_Part_Number: TXB0104QPWRQ1; Datasheet Link: http://www.ti.com/lit/gpn/txb0104-q1; Height: 1.2mm; Mouser2 Part Number: 595-TXB0104QPWRQ1; Mouser2 Price/Stock: https://www.mouser.com/Search/Refine.aspx?Keyword=595-TXB0104QPWRQ1
footprint SOP65P640X120-14N
pins: 1 VCCA, 2 A1, 3 A2, 4 A3, 5 A4, 6 NC_1, 7 GND, 8 OE, 9 NC_2, 10 B4, 11 B3, 12 B2, 13 B1, 14 VCCB

## TXB0108PWR
designator IC?
Integrated Circuit; Manufacturer_Name: Texas Instruments; Manufacturer_Part_Number: TXB0108PWR; Datasheet Link: http://www.ti.com/lit/ds/symlink/txb0108.pdf; Height: 1.2mm; Mouser2 Part Number: 595-TXB0108PWR; Mouser2 Price/Stock: https://www.mouser.com/Search/Refine.aspx?Keyword=595-TXB0108PWR
footprint SOP65P640X120-20N
pins: 1 A1, 2 VCCA, 3 A2, 4 A3, 5 A4, 6 A5, 7 A6, 8 A7, 9 A8, 10 OE, 11 GND, 12 B8, 13 B7, 14 B6, 15 B5, 16 B4, 17 B3, 18 B2, 19 VCCB, 20 B1

## TXS0104ENMNR
designator IC?
Integrated Circuit; Manufacturer_Name: Texas Instruments; Manufacturer_Part_Number: TXS0104ENMNR; Datasheet Link: https://www.arrow.com/en/products/txs0104enmnr/texas-instruments; Height: 1mm
footprint BGA12C50P4X3_250X200X100
pins: A1, A2, A3, A4, B1 VCCB, B2 VCCA, B3 OE, B4 GND, C1 B1, C2 B2, C3 B3, C4 B4

## UJ2-MIBH-2-SMT-TR-67
designator J?
Connector; Manufacturer_Name: CUI Inc.; Manufacturer_Part_Number: UJ2-MIBH-2-SMT-TR-67; Height: 4.3mm
footprint UJ2MIBH2SMTTR67
pins: 1, 2, 3, 4, 5, MP1, MP2, MP3

## VJ0603A150KXJPW1BC
designator *
CAP CER 15PF 16V C0G/NP0 0603; Manufacturer: Vishay Vitramon; Manufacturer Part Number: VJ0603A150KXJPW1BC; Dielectric Material: Tantalum; Tolerance: 10%; Dielectric: C0G; Supplier 1: Digi-Key; Supplier Part Number 1: 720-VJ0603A150KXJPW1BCCT-ND; RoHS: Yes; Category: Ceramic Capacitors; Stock 1: 13534; Mount: Surface Mount; Case/Package: 0603; Case Code (Imperial): 0603; Case Code (Metric): 1608; Min Operating Temperature: -55°C; Max Operating Temperature: 125°C; Capacitance: 15pF; Voltage Rating: 16V; Voltage Rating (DC): 16V; Packaging: Tape and Reel; Package Quantity: 15000; Termination: SMD/SMT; Series: VJ W1BC; Construction: Flat; Length: 1.6mm; Width: 0.8mm; Height: 0.95mm; Depth: 0.8mm; Lead Free: Lead Free; RoHS Compliant: Yes; ComponentLink1URL: https://datasheet.ciiva.com/5423/vjw1bcbascomseries-223529-5423350.pdf?src-supplier=Mouser; ComponentLink1Description: https://datasheet.ciiva.com/5423/vjw1bcbascomseries-223529-5423350.pdf?src-supplier=Mouser; ComponentLink2URL: https://datasheet.ciiva.com/16503/vjw1bcbascomseries-16503578.pdf?src-supplier=Future+Electronics; ComponentLink2Description: https://datasheet.ciiva.com/16503/vjw1bcbascomseries-16503578.pdf?src-supplier=Future+Electronics